# Altium footprint library Crystal.PcbLib: 1 footprints
Each footprint in its own frame and in the unit in brackets; x right, y up, seen from the top. Pads: shape width x height; smd on the part's side, far side on the other; paste and mask are expansions set on the pad; w line width, h text height; cw(c..) or ccw(c..) is an arc to the next point about the centre after c.
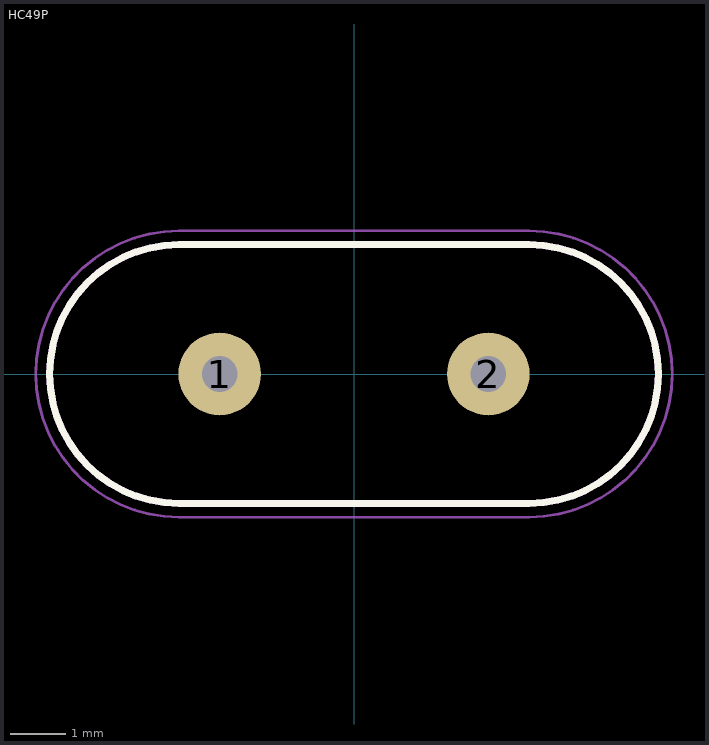
[diagram p0: the footprint, top view; thin cyan lines are the x and y axes]

## HC49P [mm]
pads (2):
  round 1.5 hole 0.65: 1(-2.44,0) 2(2.44,0)
Top Overlay:
  lines w0.127: -3.18,-2.35 cw(c-3.18,0) -3.18,2.35 3.18,2.35 cw(c3.18,0) 3.18,-2.35 -3.18,-2.35
Mechanical 13:
  lines w0.127: -3.18,-2.35 cw(c-3.18,0) -3.18,2.35 3.18,2.35 cw(c3.18,0) 3.18,-2.35 -3.18,-2.35
Mechanical 15:
  lines w0.05: -3.18,-2.6 cw(c-3.18,0) -3.18,2.6 3.18,2.6 cw(c3.18,0) 3.18,-2.6 -3.18,-2.6
3D body "16MHz ±30ppm Crystal 30pF 40 Ohms HC-49US.STEP": height 4.11, standoff -12.69, extent -5.525,-2.413 5.525,2.287